# Altium schematic symbol library 503182-011.SchLib: 1 symbol
Pins are listed as number, name and electrical type; pins without a type are passive.

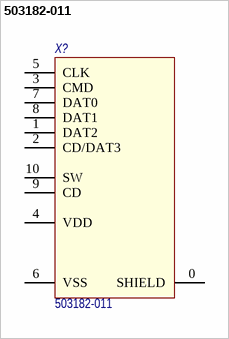
[diagram p0: symbol 503182-011]

## 503182-011
designator X?
uSD Push-In Push-Out Card Socket; Назначение: uSD Card Socket; Потребление, Вт: 0.0; Наименование: 503182-011
footprint 503182-011 (uSD Card Socket)
pins: 0 SHIELD, 1 DAT2, 2 CD/DAT3, 3 CMD, 4 VDD, 5 CLK, 6 VSS, 7 DAT0, 8 DAT1, 9 CD, 10 SW